# Altium schematic symbol library CVC_channel.SCHLIB: 7 symbols
Pins are listed as number, name and electrical type; pins without a type are passive.

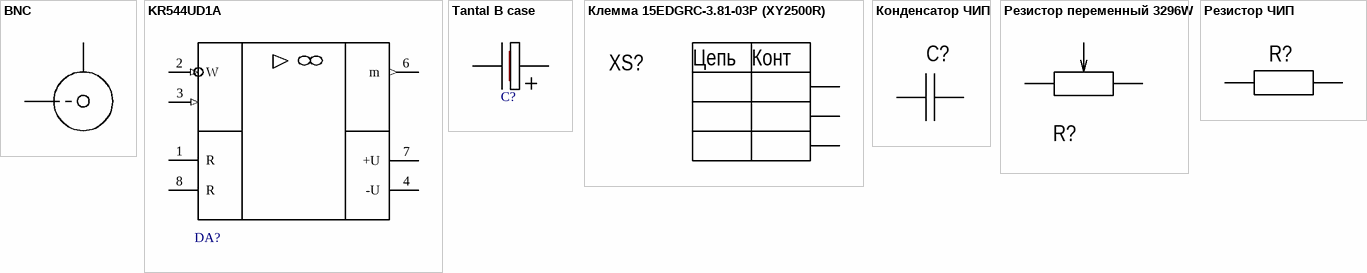
[diagram p0: symbols BNC to Резистор ЧИП]

## BNC
designator XW?  (value not drawn)
BNC Elbow Connector; name: Разъем BNC (гнездо); LatestRevisionDate: 17-Jul-2002; LatestRevisionNote: Re-released for DXP Platform.; Publisher: Altium Limited; type: коннекторы
footprint BNC_RA CON (Connector; BNC Elbow)
signal-integrity model Connector
footprint HYR-0142A (BNC connector)
pins: 1 X, 2 Y

## KR544UD1A
designator DA?  (value not drawn)
name: KR544UD1A; type: микросхемы аналоговые
footprint DIP-8
pins: 1 R, 2 W (in), 3 (in), 4 -U (power), 6 m (out), 7 +U (power), 8 R

## Tantal B case
designator C?  (value not drawn)
Конденсатор танталовый LowESR; name: Тантал. ЧИП B case (B45197A); value: 22 мкФ; dopusk: ±20%; type: конденсаторы; napr: 16 В; codegr: 1002060122; enter: *
footprint B
pins: 1 -, 2 +

## Клемма 15EDGRC-3.81-03P (XY2500R)
designator XS?  (value not drawn)
name: Клемма 15EDGRC-3.81-03P; type: коннекторы
footprint 15EDGRC-3.81-03P (XY2500R - клемма контакная угловая)
pins: 1, 2, 3
text: Цепь; Конт

## Конденсатор ЧИП
designator C?  (value not drawn)
Чип конденсатор; name: ЧИП-0805-X7R; value: 1 мкФ; dopusk: ±10%; type: конденсаторы; codegr: 1002060122; enter: *
footprint CC2012-0805
footprint CC3216-1206
footprint K10-47
footprint CC5750-2220
footprint CC1608-0603
footprint CC3225-1210
footprint CC4532-1812
pins: 1, 2

## Резистор переменный 3296W
designator R?, comment Trimming Potentiometer  (value not drawn)
name: 3296; type: резисторы
footprint 3296W
pins: 1, 2, 3

## Резистор ЧИП
designator R?, comment резистор чип  (value not drawn)
name: ЧИП-0805; value: 1 кОм; dopusk: ±5%; codegr: 100206060405; type: резисторы; enter: *
footprint CR2012-0805
footprint CR1608-0603
footprint CR3216-1206
pins: 1, 2